# EAGLE library part R-BUS-SIL-5 (library Skoba)
SIL RESISTOR
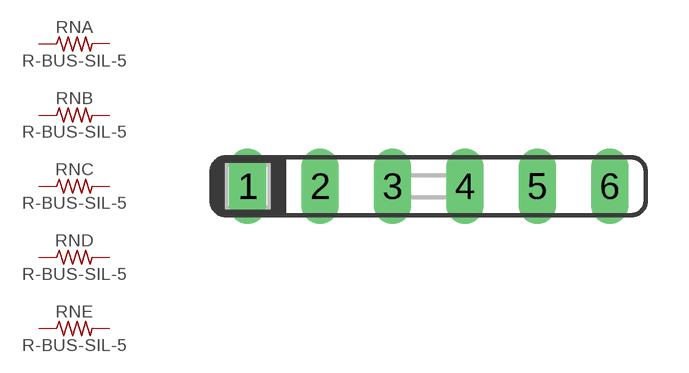
[diagram p15: symbol with the pads of SIL6; footprint SIL6]

Designator prefix RN; gates A=R-US B=R-US-1 C=R-US-1 D=R-US-1 E=R-US-1

## R-BUS-SIL-5 (OC_FARNELL: unknown; OC_NEWARK: unknown)  [SIL6]
1  A:2  pas
2  A:1  pas
3  B:1  pas
4  C:1  pas
5  D:1  pas
6  E:1  pas

## Footprint SIL6 (pad centres in mm)
Single In Line
drill 0.813 long: 1 -6.35,0; 2 -3.81,0; 3 -1.27,0; 4 1.27,0; 5 3.81,0; 6 6.35,0